# Altium integrated library Maxim Analog Filters.IntLib: 555 symbols (part 15 of 26)
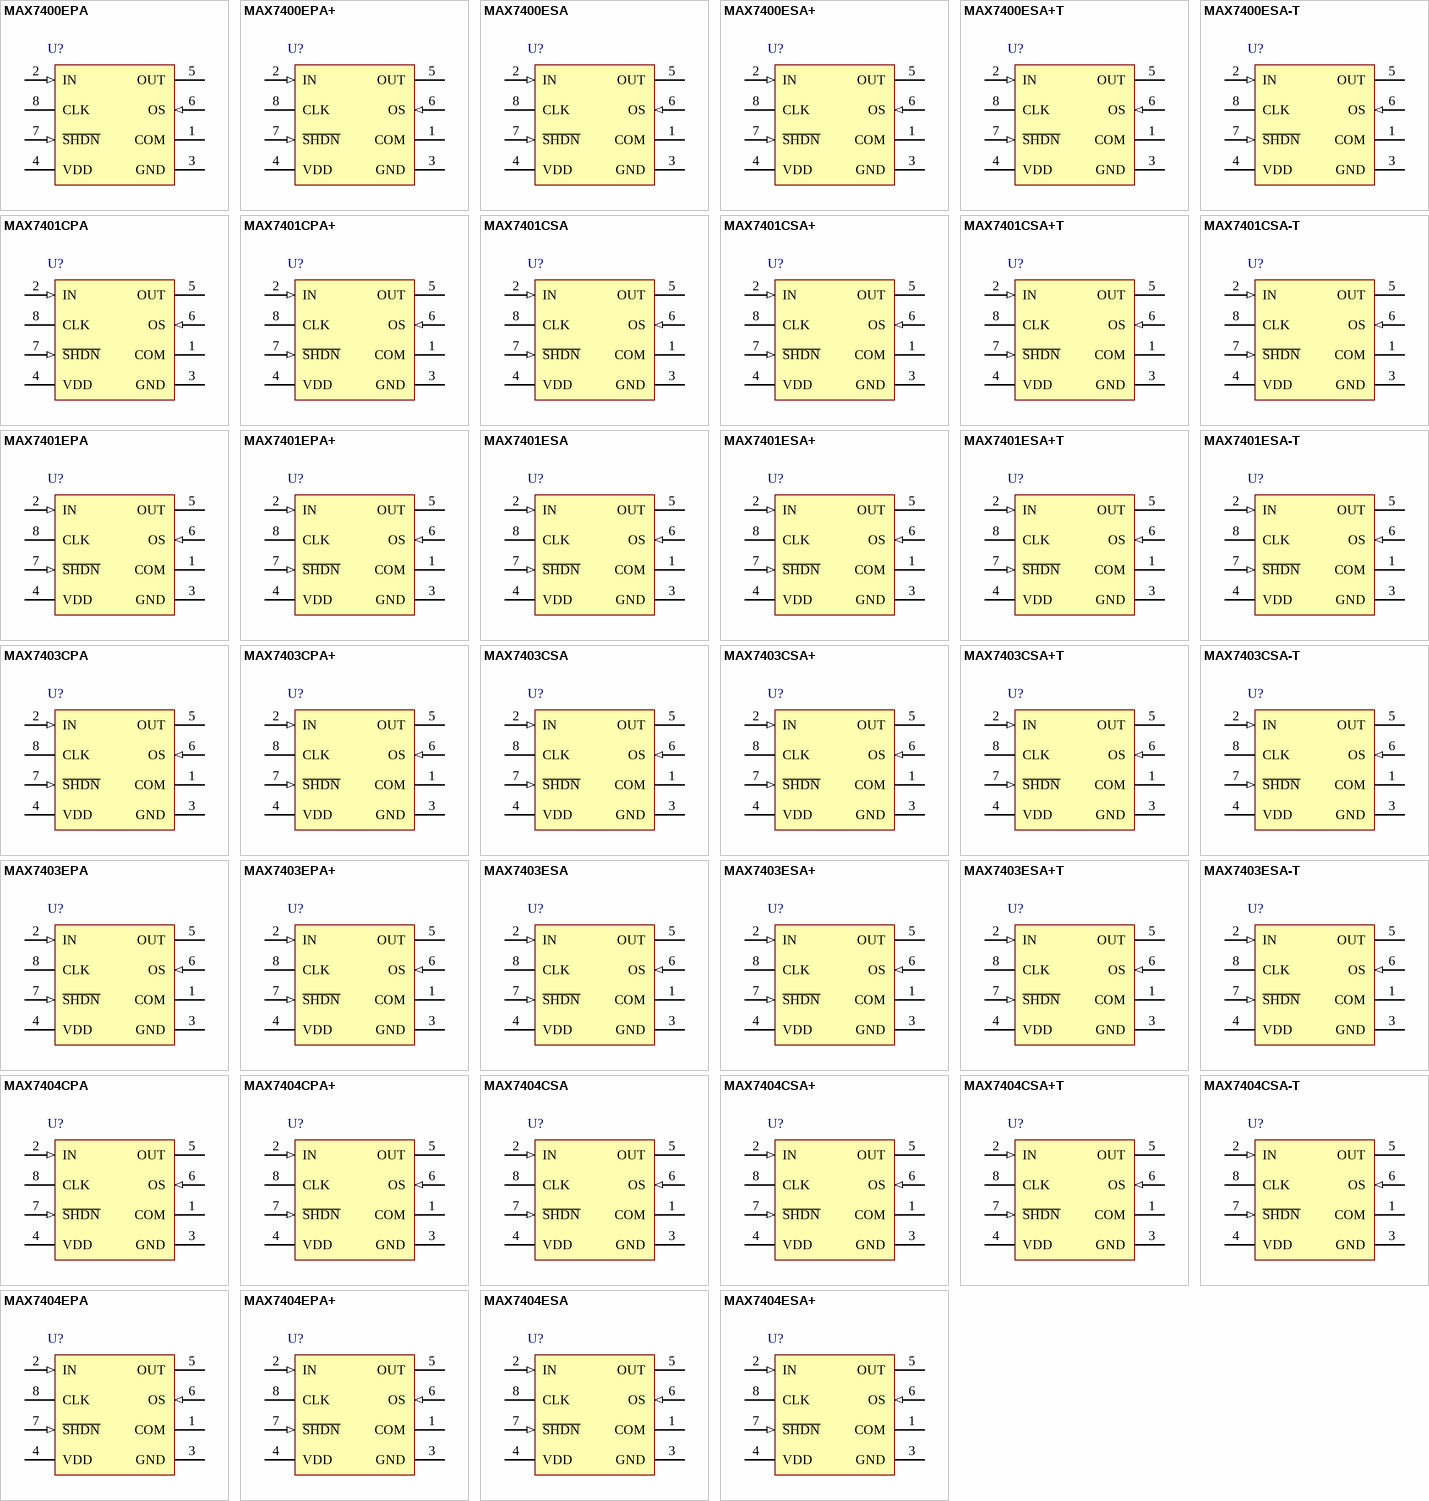
[diagram p31: symbols MAX7400EPA to MAX7404ESA+]

## MAX7400ESA+
designator U?
8th-Order Switched Capacitor Lowpass Filter, Elliptic, 5 V, -40 to 85 degC, 8-Pin SOIC (S8+5), Pb-Free; Generic Part Number: MAX7400; PartNumber: MAX7400ESA+; Filter Sections: 1; Order Per Filter Section: 8; Program Method: Clock; DatasheetVersion: Rev. 2; PackageVersion: Rev. D, 10/2012; PackageReference: S8+5; PackageDescription: 8-Pin Small-Outline IC, Narrow (0.15in) (S8+5), Body 4.90 x 3.90 mm, Pitch 1.27 mm; Supplier 1: Digi-Key; Supplier Part Number 1: MAX7400ESA+-ND; Supplier 2: Farnell; Supplier Part Number 2: 1936387; Supplier 3: Mouser; Supplier Part Number 3: 700-MAX7400ESA; Filter Characteristic: Elliptic; Filter Class: Switched Cap; Filter Type: Lowpass; RoHS: Pb-Free; Mounting Technology: Surface Mount; Code_JEDEC: MS012; ComponentLink1Description: Manufacturer URL; ComponentLink1URL: http://www.maximintegrated.com/; ComponentLink2Description: Datasheet; ComponentLink2URL: http://datasheets.maximintegrated.com/en/ds/MAX7400-MAX7407.pdf; ComponentLink3Description: Package Specification; ComponentLink3URL: http://pdfserv.maximintegrated.com/package_dwgs/21-0041.PDF
footprint MAXM-S8+5_N (SOIC, 8-Leads, Body 4.90x3.90mm, Pitch 1.27mm, IPC Medium Density)
footprint MAXM-S8+5_L (SOIC, 8-Leads, Body 4.90x3.90mm, Pitch 1.27mm, IPC High Density)
footprint MAXM-S8+5_M (SOIC, 8-Leads, Body 4.90x3.90mm, Pitch 1.27mm, IPC Low Density)
pins: 1 COM "Common Input. Biased internally at midsupply. Bypass externally to GND with a 0.1uF capacitor. To override internal biasing, drive with an external supply.", 2 IN (in) "Filter Input", 3 GND (power) "Ground", 4 VDD (power) "Positive Supply Input: +5V for MAX7400/MAX7403, +3V for MAX7404/MAX7407", 5 OUT (hiz) "Filter Output", 6 OS (in) "Offset Adjust Input. To adjust output offset, bias OS externally. Connect OS to COM if no offset adjustment is needed. Refer to Offset and Common-Mode Input Adjustment section.", 7 ~{SHDN} (in) "Shutdown Input. Drive low to enable shutdown mode; drive high or connect to VDD for normal operation.", 8 CLK "Clock Input. To override the internal oscillator, connect to an external clock; otherwise, connect an external capacitor (COSC) from CLK to GND to set the internal oscillator frequency."

## MAX7400ESA+T
designator U?
8th-Order Switched Capacitor Lowpass Filter, Elliptic, 5 V, -40 to 85 degC, 8-Pin SOIC (S8+5), Pb-Free, Tape and Reel; Generic Part Number: MAX7400; PartNumber: MAX7400ESA+T; Filter Sections: 1; Order Per Filter Section: 8; Program Method: Clock; DatasheetVersion: Rev. 2; PackageVersion: Rev. D, 10/2012; PackageReference: S8+5; PackageDescription: 8-Pin Small-Outline IC, Narrow (0.15in) (S8+5), Body 4.90 x 3.90 mm, Pitch 1.27 mm; Supplier 1: Digi-Key; Supplier Part Number 1: MAX7400ESA+T-ND; Supplier 2: Mouser; Supplier Part Number 2: 700-MAX7400ESAT; Filter Characteristic: Elliptic; Filter Class: Switched Cap; Filter Type: Lowpass; Packing: Tape and Reel; RoHS: Pb-Free; Mounting Technology: Surface Mount; Code_JEDEC: MS012; ComponentLink1Description: Manufacturer URL; ComponentLink1URL: http://www.maximintegrated.com/; ComponentLink2Description: Datasheet; ComponentLink2URL: http://datasheets.maximintegrated.com/en/ds/MAX7400-MAX7407.pdf; ComponentLink3Description: Package Specification; ComponentLink3URL: http://pdfserv.maximintegrated.com/package_dwgs/21-0041.PDF
footprint MAXM-S8+5_N (SOIC, 8-Leads, Body 4.90x3.90mm, Pitch 1.27mm, IPC Medium Density)
footprint MAXM-S8+5_L (SOIC, 8-Leads, Body 4.90x3.90mm, Pitch 1.27mm, IPC High Density)
footprint MAXM-S8+5_M (SOIC, 8-Leads, Body 4.90x3.90mm, Pitch 1.27mm, IPC Low Density)
pins: 1 COM "Common Input. Biased internally at midsupply. Bypass externally to GND with a 0.1uF capacitor. To override internal biasing, drive with an external supply.", 2 IN (in) "Filter Input", 3 GND (power) "Ground", 4 VDD (power) "Positive Supply Input: +5V for MAX7400/MAX7403, +3V for MAX7404/MAX7407", 5 OUT (hiz) "Filter Output", 6 OS (in) "Offset Adjust Input. To adjust output offset, bias OS externally. Connect OS to COM if no offset adjustment is needed. Refer to Offset and Common-Mode Input Adjustment section.", 7 ~{SHDN} (in) "Shutdown Input. Drive low to enable shutdown mode; drive high or connect to VDD for normal operation.", 8 CLK "Clock Input. To override the internal oscillator, connect to an external clock; otherwise, connect an external capacitor (COSC) from CLK to GND to set the internal oscillator frequency."

## MAX7400ESA-T
designator U?
8th-Order Switched Capacitor Lowpass Filter, Elliptic, 5 V, -40 to 85 degC, 8-Pin SOIC (S8-5), Tape and Reel; Generic Part Number: MAX7400; PartNumber: MAX7400ESA-T; Filter Sections: 1; Order Per Filter Section: 8; Program Method: Clock; DatasheetVersion: Rev. 2; PackageVersion: Rev. D, 10/2012; PackageReference: S8-5; PackageDescription: 8-Pin Small-Outline IC, Narrow (0.15in) (S8-5), Body 4.90 x 3.90 mm, Pitch 1.27 mm; Supplier 1: Mouser; Supplier Part Number 1: N/A; Filter Characteristic: Elliptic; Filter Class: Switched Cap; Filter Type: Lowpass; Packing: Tape and Reel; Mounting Technology: Surface Mount; Code_JEDEC: MS012; ComponentLink1Description: Manufacturer URL; ComponentLink1URL: http://www.maximintegrated.com/; ComponentLink2Description: Datasheet; ComponentLink2URL: http://datasheets.maximintegrated.com/en/ds/MAX7400-MAX7407.pdf; ComponentLink3Description: Package Specification; ComponentLink3URL: http://pdfserv.maximintegrated.com/package_dwgs/21-0041.PDF
footprint MAXM-S8-5_N (SOIC, 8-Leads, Body 4.9x3.9mm, Pitch 1.27mm, IPC Medium Density)
footprint MAXM-S8-5_L (SOIC, 8-Leads, Body 4.9x3.9mm, Pitch 1.27mm, IPC High Density)
footprint MAXM-S8-5_M (SOIC, 8-Leads, Body 4.9x3.9mm, Pitch 1.27mm, IPC Low Density)
pins: 1 COM "Common Input. Biased internally at midsupply. Bypass externally to GND with a 0.1uF capacitor. To override internal biasing, drive with an external supply.", 2 IN (in) "Filter Input", 3 GND (power) "Ground", 4 VDD (power) "Positive Supply Input: +5V for MAX7400/MAX7403, +3V for MAX7404/MAX7407", 5 OUT (hiz) "Filter Output", 6 OS (in) "Offset Adjust Input. To adjust output offset, bias OS externally. Connect OS to COM if no offset adjustment is needed. Refer to Offset and Common-Mode Input Adjustment section.", 7 ~{SHDN} (in) "Shutdown Input. Drive low to enable shutdown mode; drive high or connect to VDD for normal operation.", 8 CLK "Clock Input. To override the internal oscillator, connect to an external clock; otherwise, connect an external capacitor (COSC) from CLK to GND to set the internal oscillator frequency."

## MAX7401CPA
designator U?
8th-Order Switched Capacitor Lowpass Filter, Bessel, 5 V, 0 to 70 degC, 8-Pin DIP (P8-2); Generic Part Number: MAX7401; PartNumber: MAX7401CPA; Filter Sections: 1; Order Per Filter Section: 8; Program Method: Clock; DatasheetVersion: Rev. 1; PackageVersion: Rev. E, 04/2011; PackageReference: P8-2; PackageDescription: 8-Pin Plastic Dual-In-Line, Narrow (0.3in) (P8-2), Body 9.375 x 6.985 mm, Pitch 2.54 mm; Supplier 1: Mouser; Supplier Part Number 1: N/A; Filter Characteristic: Bessel; Filter Class: Switched Cap; Filter Type: Lowpass; Mounting Technology: Through Hole; Code_JEDEC: MS001-XX; ComponentLink1Description: Manufacturer URL; ComponentLink1URL: http://www.maximintegrated.com/; ComponentLink2Description: Datasheet; ComponentLink2URL: http://datasheets.maximintegrated.com/en/ds/MAX7401-MAX7405.pdf; ComponentLink3Description: Package Specification; ComponentLink3URL: http://pdfserv.maximintegrated.com/package_dwgs/21-0043.PDF
footprint MAXM-P8-2 (DIP, 8-Leads, Body 9.375x6.985mm, Pitch 2.54mm)
pins: 1 COM "Common Input. Biased internally at mid-supply. Bypass externally to GND with a 0.1uF capacitor. To override internal biasing, drive with an external supply.", 2 IN (in) "Filter Input", 3 GND (power) "Ground", 4 VDD (power) "Positive Supply Input: +5V for MAX7401, +3V for MAX7405", 5 OUT (hiz) "Filter Output", 6 OS (in) "Offset Adjust Input. To adjust output offset, bias OS externally. Connect OS to COM if no offset adjustment is needed. Refer to Offset and Common-Mode Input Adjustment section.", 7 ~{SHDN} (in) "Shutdown Input. Drive low to enable shutdown mode; drive high or connect to VDD for normal operation.", 8 CLK "Clock Input. To override the internal oscillator, connect to an external clock; otherwise, connect an external capacitor (COSC) from CLK to GND to set the internal oscillator frequency."

## MAX7401CPA+
designator U?
8th-Order Switched Capacitor Lowpass Filter, Bessel, 5 V, 0 to 70 degC, 8-Pin DIP (P8+2), Pb-Free; Generic Part Number: MAX7401; PartNumber: MAX7401CPA+; Filter Sections: 1; Order Per Filter Section: 8; Program Method: Clock; DatasheetVersion: Rev. 1; PackageVersion: Rev. E, 04/2011; PackageReference: P8+2; PackageDescription: 8-Pin Plastic Dual-In-Line, Narrow (0.3in) (P8+2), Body 9.375 x 6.985 mm, Pitch 2.54 mm; Supplier 1: Digi-Key; Supplier Part Number 1: MAX7401CPA+-ND; Supplier 2: Mouser; Supplier Part Number 2: 700-MAX7401CPA; Filter Characteristic: Bessel; Filter Class: Switched Cap; Filter Type: Lowpass; RoHS: Pb-Free; Mounting Technology: Through Hole; Code_JEDEC: MS001-XX; ComponentLink1Description: Manufacturer URL; ComponentLink1URL: http://www.maximintegrated.com/; ComponentLink2Description: Datasheet; ComponentLink2URL: http://datasheets.maximintegrated.com/en/ds/MAX7401-MAX7405.pdf; ComponentLink3Description: Package Specification; ComponentLink3URL: http://pdfserv.maximintegrated.com/package_dwgs/21-0043.PDF
footprint MAXM-P8+2 (DIP, 8-Leads, Body 9.375x6.985mm, Pitch 2.54mm)
pins: 1 COM "Common Input. Biased internally at mid-supply. Bypass externally to GND with a 0.1uF capacitor. To override internal biasing, drive with an external supply.", 2 IN (in) "Filter Input", 3 GND (power) "Ground", 4 VDD (power) "Positive Supply Input: +5V for MAX7401, +3V for MAX7405", 5 OUT (hiz) "Filter Output", 6 OS (in) "Offset Adjust Input. To adjust output offset, bias OS externally. Connect OS to COM if no offset adjustment is needed. Refer to Offset and Common-Mode Input Adjustment section.", 7 ~{SHDN} (in) "Shutdown Input. Drive low to enable shutdown mode; drive high or connect to VDD for normal operation.", 8 CLK "Clock Input. To override the internal oscillator, connect to an external clock; otherwise, connect an external capacitor (COSC) from CLK to GND to set the internal oscillator frequency."

## MAX7401CSA
designator U?
8th-Order Switched Capacitor Lowpass Filter, Bessel, 5 V, 0 to 70 degC, 8-Pin SOIC (S8-5); Generic Part Number: MAX7401; PartNumber: MAX7401CSA; Filter Sections: 1; Order Per Filter Section: 8; Program Method: Clock; DatasheetVersion: Rev. 1; PackageVersion: Rev. D, 10/2012; PackageReference: S8-5; PackageDescription: 8-Pin Small-Outline IC, Narrow (0.15in) (S8-5), Body 4.90 x 3.90 mm, Pitch 1.27 mm; Supplier 1: Mouser; Supplier Part Number 1: N/A; Filter Characteristic: Bessel; Filter Class: Switched Cap; Filter Type: Lowpass; Mounting Technology: Surface Mount; Code_JEDEC: MS012; ComponentLink1Description: Manufacturer URL; ComponentLink1URL: http://www.maximintegrated.com/; ComponentLink2Description: Datasheet; ComponentLink2URL: http://datasheets.maximintegrated.com/en/ds/MAX7401-MAX7405.pdf; ComponentLink3Description: Package Specification; ComponentLink3URL: http://pdfserv.maximintegrated.com/package_dwgs/21-0041.PDF
footprint MAXM-S8-5_N (SOIC, 8-Leads, Body 4.9x3.9mm, Pitch 1.27mm, IPC Medium Density)
footprint MAXM-S8-5_L (SOIC, 8-Leads, Body 4.9x3.9mm, Pitch 1.27mm, IPC High Density)
footprint MAXM-S8-5_M (SOIC, 8-Leads, Body 4.9x3.9mm, Pitch 1.27mm, IPC Low Density)
pins: 1 COM "Common Input. Biased internally at midsupply. Bypass externally to GND with a 0.1uF capacitor. To override internal biasing, drive with an external supply.", 2 IN (in) "Filter Input", 3 GND (power) "Ground", 4 VDD (power) "Positive Supply Input: +5V for MAX7400/MAX7403, +3V for MAX7404/MAX7407", 5 OUT (hiz) "Filter Output", 6 OS (in) "Offset Adjust Input. To adjust output offset, bias OS externally. Connect OS to COM if no offset adjustment is needed. Refer to Offset and Common-Mode Input Adjustment section.", 7 ~{SHDN} (in) "Shutdown Input. Drive low to enable shutdown mode; drive high or connect to VDD for normal operation.", 8 CLK "Clock Input. To override the internal oscillator, connect to an external clock; otherwise, connect an external capacitor (COSC) from CLK to GND to set the internal oscillator frequency."

## MAX7401CSA+
designator U?
8th-Order Switched Capacitor Lowpass Filter, Bessel, 5 V, 0 to 70 degC, 8-Pin SOIC (S8+5), Pb-Free; Generic Part Number: MAX7401; PartNumber: MAX7401CSA+; Filter Sections: 1; Order Per Filter Section: 8; Program Method: Clock; DatasheetVersion: Rev. 1; PackageVersion: Rev. D, 10/2012; PackageReference: S8+5; PackageDescription: 8-Pin Small-Outline IC, Narrow (0.15in) (S8+5), Body 4.90 x 3.90 mm, Pitch 1.27 mm; Supplier 1: Digi-Key; Supplier Part Number 1: MAX7401CSA+-ND; Supplier 2: Mouser; Supplier Part Number 2: 700-MAX7401CSA; Filter Characteristic: Bessel; Filter Class: Switched Cap; Filter Type: Lowpass; RoHS: Pb-Free; Mounting Technology: Surface Mount; Code_JEDEC: MS012; ComponentLink1Description: Manufacturer URL; ComponentLink1URL: http://www.maximintegrated.com/; ComponentLink2Description: Datasheet; ComponentLink2URL: http://datasheets.maximintegrated.com/en/ds/MAX7401-MAX7405.pdf; ComponentLink3Description: Package Specification; ComponentLink3URL: http://pdfserv.maximintegrated.com/package_dwgs/21-0041.PDF
footprint MAXM-S8+5_N (SOIC, 8-Leads, Body 4.90x3.90mm, Pitch 1.27mm, IPC Medium Density)
footprint MAXM-S8+5_L (SOIC, 8-Leads, Body 4.90x3.90mm, Pitch 1.27mm, IPC High Density)
footprint MAXM-S8+5_M (SOIC, 8-Leads, Body 4.90x3.90mm, Pitch 1.27mm, IPC Low Density)
pins: 1 COM "Common Input. Biased internally at midsupply. Bypass externally to GND with a 0.1uF capacitor. To override internal biasing, drive with an external supply.", 2 IN (in) "Filter Input", 3 GND (power) "Ground", 4 VDD (power) "Positive Supply Input: +5V for MAX7400/MAX7403, +3V for MAX7404/MAX7407", 5 OUT (hiz) "Filter Output", 6 OS (in) "Offset Adjust Input. To adjust output offset, bias OS externally. Connect OS to COM if no offset adjustment is needed. Refer to Offset and Common-Mode Input Adjustment section.", 7 ~{SHDN} (in) "Shutdown Input. Drive low to enable shutdown mode; drive high or connect to VDD for normal operation.", 8 CLK "Clock Input. To override the internal oscillator, connect to an external clock; otherwise, connect an external capacitor (COSC) from CLK to GND to set the internal oscillator frequency."

## MAX7401CSA+T
designator U?
8th-Order Switched Capacitor Lowpass Filter, Bessel, 5 V, 0 to 70 degC, 8-Pin SOIC (S8+5), Pb-Free, Tape and Reel; Generic Part Number: MAX7401; PartNumber: MAX7401CSA+T; Filter Sections: 1; Order Per Filter Section: 8; Program Method: Clock; DatasheetVersion: Rev. 1; PackageVersion: Rev. D, 10/2012; PackageReference: S8+5; PackageDescription: 8-Pin Small-Outline IC, Narrow (0.15in) (S8+5), Body 4.90 x 3.90 mm, Pitch 1.27 mm; Supplier 1: Digi-Key; Supplier Part Number 1: MAX7401CSA+T-ND; Supplier 2: Mouser; Supplier Part Number 2: 700-MAX7401CSAT; Filter Characteristic: Bessel; Filter Class: Switched Cap; Filter Type: Lowpass; Packing: Tape and Reel; RoHS: Pb-Free; Mounting Technology: Surface Mount; Code_JEDEC: MS012; ComponentLink1Description: Manufacturer URL; ComponentLink1URL: http://www.maximintegrated.com/; ComponentLink2Description: Datasheet; ComponentLink2URL: http://datasheets.maximintegrated.com/en/ds/MAX7401-MAX7405.pdf; ComponentLink3Description: Package Specification; ComponentLink3URL: http://pdfserv.maximintegrated.com/package_dwgs/21-0041.PDF
footprint MAXM-S8+5_N (SOIC, 8-Leads, Body 4.90x3.90mm, Pitch 1.27mm, IPC Medium Density)
footprint MAXM-S8+5_L (SOIC, 8-Leads, Body 4.90x3.90mm, Pitch 1.27mm, IPC High Density)
footprint MAXM-S8+5_M (SOIC, 8-Leads, Body 4.90x3.90mm, Pitch 1.27mm, IPC Low Density)
pins: 1 COM "Common Input. Biased internally at midsupply. Bypass externally to GND with a 0.1uF capacitor. To override internal biasing, drive with an external supply.", 2 IN (in) "Filter Input", 3 GND (power) "Ground", 4 VDD (power) "Positive Supply Input: +5V for MAX7400/MAX7403, +3V for MAX7404/MAX7407", 5 OUT (hiz) "Filter Output", 6 OS (in) "Offset Adjust Input. To adjust output offset, bias OS externally. Connect OS to COM if no offset adjustment is needed. Refer to Offset and Common-Mode Input Adjustment section.", 7 ~{SHDN} (in) "Shutdown Input. Drive low to enable shutdown mode; drive high or connect to VDD for normal operation.", 8 CLK "Clock Input. To override the internal oscillator, connect to an external clock; otherwise, connect an external capacitor (COSC) from CLK to GND to set the internal oscillator frequency."

## MAX7401CSA-T
designator U?
8th-Order Switched Capacitor Lowpass Filter, Bessel, 5 V, 0 to 70 degC, 8-Pin SOIC (S8-5), Tape and Reel; Generic Part Number: MAX7401; PartNumber: MAX7401CSA-T; Filter Sections: 1; Order Per Filter Section: 8; Program Method: Clock; DatasheetVersion: Rev. 1; PackageVersion: Rev. D, 10/2012; PackageReference: S8-5; PackageDescription: 8-Pin Small-Outline IC, Narrow (0.15in) (S8-5), Body 4.90 x 3.90 mm, Pitch 1.27 mm; Supplier 1: Mouser; Supplier Part Number 1: N/A; Filter Characteristic: Bessel; Filter Class: Switched Cap; Filter Type: Lowpass; Packing: Tape and Reel; Mounting Technology: Surface Mount; Code_JEDEC: MS012; ComponentLink1Description: Manufacturer URL; ComponentLink1URL: http://www.maximintegrated.com/; ComponentLink2Description: Datasheet; ComponentLink2URL: http://datasheets.maximintegrated.com/en/ds/MAX7401-MAX7405.pdf; ComponentLink3Description: Package Specification; ComponentLink3URL: http://pdfserv.maximintegrated.com/package_dwgs/21-0041.PDF
footprint MAXM-S8-5_N (SOIC, 8-Leads, Body 4.9x3.9mm, Pitch 1.27mm, IPC Medium Density)
footprint MAXM-S8-5_L (SOIC, 8-Leads, Body 4.9x3.9mm, Pitch 1.27mm, IPC High Density)
footprint MAXM-S8-5_M (SOIC, 8-Leads, Body 4.9x3.9mm, Pitch 1.27mm, IPC Low Density)
pins: 1 COM "Common Input. Biased internally at midsupply. Bypass externally to GND with a 0.1uF capacitor. To override internal biasing, drive with an external supply.", 2 IN (in) "Filter Input", 3 GND (power) "Ground", 4 VDD (power) "Positive Supply Input: +5V for MAX7400/MAX7403, +3V for MAX7404/MAX7407", 5 OUT (hiz) "Filter Output", 6 OS (in) "Offset Adjust Input. To adjust output offset, bias OS externally. Connect OS to COM if no offset adjustment is needed. Refer to Offset and Common-Mode Input Adjustment section.", 7 ~{SHDN} (in) "Shutdown Input. Drive low to enable shutdown mode; drive high or connect to VDD for normal operation.", 8 CLK "Clock Input. To override the internal oscillator, connect to an external clock; otherwise, connect an external capacitor (COSC) from CLK to GND to set the internal oscillator frequency."

## MAX7401EPA
designator U?
8th-Order Switched Capacitor Lowpass Filter, Bessel, 5 V, -40 to 85 degC, 8-Pin DIP (P8-2); Generic Part Number: MAX7401; PartNumber: MAX7401EPA; Filter Sections: 1; Order Per Filter Section: 8; Program Method: Clock; DatasheetVersion: Rev. 1; PackageVersion: Rev. E, 04/2011; PackageReference: P8-2; PackageDescription: 8-Pin Plastic Dual-In-Line, Narrow (0.3in) (P8-2), Body 9.375 x 6.985 mm, Pitch 2.54 mm; Supplier 1: Mouser; Supplier Part Number 1: N/A; Filter Characteristic: Bessel; Filter Class: Switched Cap; Filter Type: Lowpass; Mounting Technology: Through Hole; Code_JEDEC: MS001-XX; ComponentLink1Description: Manufacturer URL; ComponentLink1URL: http://www.maximintegrated.com/; ComponentLink2Description: Datasheet; ComponentLink2URL: http://datasheets.maximintegrated.com/en/ds/MAX7401-MAX7405.pdf; ComponentLink3Description: Package Specification; ComponentLink3URL: http://pdfserv.maximintegrated.com/package_dwgs/21-0043.PDF
footprint MAXM-P8-2 (DIP, 8-Leads, Body 9.375x6.985mm, Pitch 2.54mm)
pins: 1 COM "Common Input. Biased internally at mid-supply. Bypass externally to GND with a 0.1uF capacitor. To override internal biasing, drive with an external supply.", 2 IN (in) "Filter Input", 3 GND (power) "Ground", 4 VDD (power) "Positive Supply Input: +5V for MAX7401, +3V for MAX7405", 5 OUT (hiz) "Filter Output", 6 OS (in) "Offset Adjust Input. To adjust output offset, bias OS externally. Connect OS to COM if no offset adjustment is needed. Refer to Offset and Common-Mode Input Adjustment section.", 7 ~{SHDN} (in) "Shutdown Input. Drive low to enable shutdown mode; drive high or connect to VDD for normal operation.", 8 CLK "Clock Input. To override the internal oscillator, connect to an external clock; otherwise, connect an external capacitor (COSC) from CLK to GND to set the internal oscillator frequency."

## MAX7401EPA+
designator U?
8th-Order Switched Capacitor Lowpass Filter, Bessel, 5 V, -40 to 85 degC, 8-Pin DIP (P8+2), Pb-Free; Generic Part Number: MAX7401; PartNumber: MAX7401EPA+; Filter Sections: 1; Order Per Filter Section: 8; Program Method: Clock; DatasheetVersion: Rev. 1; PackageVersion: Rev. E, 04/2011; PackageReference: P8+2; PackageDescription: 8-Pin Plastic Dual-In-Line, Narrow (0.3in) (P8+2), Body 9.375 x 6.985 mm, Pitch 2.54 mm; Supplier 1: Digi-Key; Supplier Part Number 1: MAX7401EPA+-ND; Supplier 2: Mouser; Supplier Part Number 2: 700-MAX7401EPA; Filter Characteristic: Bessel; Filter Class: Switched Cap; Filter Type: Lowpass; RoHS: Pb-Free; Mounting Technology: Through Hole; Code_JEDEC: MS001-XX; ComponentLink1Description: Manufacturer URL; ComponentLink1URL: http://www.maximintegrated.com/; ComponentLink2Description: Datasheet; ComponentLink2URL: http://datasheets.maximintegrated.com/en/ds/MAX7401-MAX7405.pdf; ComponentLink3Description: Package Specification; ComponentLink3URL: http://pdfserv.maximintegrated.com/package_dwgs/21-0043.PDF
footprint MAXM-P8+2 (DIP, 8-Leads, Body 9.375x6.985mm, Pitch 2.54mm)
pins: 1 COM "Common Input. Biased internally at mid-supply. Bypass externally to GND with a 0.1uF capacitor. To override internal biasing, drive with an external supply.", 2 IN (in) "Filter Input", 3 GND (power) "Ground", 4 VDD (power) "Positive Supply Input: +5V for MAX7401, +3V for MAX7405", 5 OUT (hiz) "Filter Output", 6 OS (in) "Offset Adjust Input. To adjust output offset, bias OS externally. Connect OS to COM if no offset adjustment is needed. Refer to Offset and Common-Mode Input Adjustment section.", 7 ~{SHDN} (in) "Shutdown Input. Drive low to enable shutdown mode; drive high or connect to VDD for normal operation.", 8 CLK "Clock Input. To override the internal oscillator, connect to an external clock; otherwise, connect an external capacitor (COSC) from CLK to GND to set the internal oscillator frequency."

## MAX7401ESA
designator U?
8th-Order Switched Capacitor Lowpass Filter, Bessel, 5 V, -40 to 85 degC, 8-Pin SOIC (S8-5); Generic Part Number: MAX7401; PartNumber: MAX7401ESA; Filter Sections: 1; Order Per Filter Section: 8; Program Method: Clock; DatasheetVersion: Rev. 1; PackageVersion: Rev. D, 10/2012; PackageReference: S8-5; PackageDescription: 8-Pin Small-Outline IC, Narrow (0.15in) (S8-5), Body 4.90 x 3.90 mm, Pitch 1.27 mm; Supplier 1: Mouser; Supplier Part Number 1: N/A; Filter Characteristic: Bessel; Filter Class: Switched Cap; Filter Type: Lowpass; Mounting Technology: Surface Mount; Code_JEDEC: MS012; ComponentLink1Description: Manufacturer URL; ComponentLink1URL: http://www.maximintegrated.com/; ComponentLink2Description: Datasheet; ComponentLink2URL: http://datasheets.maximintegrated.com/en/ds/MAX7401-MAX7405.pdf; ComponentLink3Description: Package Specification; ComponentLink3URL: http://pdfserv.maximintegrated.com/package_dwgs/21-0041.PDF
footprint MAXM-S8-5_N (SOIC, 8-Leads, Body 4.9x3.9mm, Pitch 1.27mm, IPC Medium Density)
footprint MAXM-S8-5_L (SOIC, 8-Leads, Body 4.9x3.9mm, Pitch 1.27mm, IPC High Density)
footprint MAXM-S8-5_M (SOIC, 8-Leads, Body 4.9x3.9mm, Pitch 1.27mm, IPC Low Density)
pins: 1 COM "Common Input. Biased internally at midsupply. Bypass externally to GND with a 0.1uF capacitor. To override internal biasing, drive with an external supply.", 2 IN (in) "Filter Input", 3 GND (power) "Ground", 4 VDD (power) "Positive Supply Input: +5V for MAX7400/MAX7403, +3V for MAX7404/MAX7407", 5 OUT (hiz) "Filter Output", 6 OS (in) "Offset Adjust Input. To adjust output offset, bias OS externally. Connect OS to COM if no offset adjustment is needed. Refer to Offset and Common-Mode Input Adjustment section.", 7 ~{SHDN} (in) "Shutdown Input. Drive low to enable shutdown mode; drive high or connect to VDD for normal operation.", 8 CLK "Clock Input. To override the internal oscillator, connect to an external clock; otherwise, connect an external capacitor (COSC) from CLK to GND to set the internal oscillator frequency."

## MAX7401ESA+
designator U?
8th-Order Switched Capacitor Lowpass Filter, Bessel, 5 V, -40 to 85 degC, 8-Pin SOIC (S8+5), Pb-Free; Generic Part Number: MAX7401; PartNumber: MAX7401ESA+; Filter Sections: 1; Order Per Filter Section: 8; Program Method: Clock; DatasheetVersion: Rev. 1; PackageVersion: Rev. D, 10/2012; PackageReference: S8+5; PackageDescription: 8-Pin Small-Outline IC, Narrow (0.15in) (S8+5), Body 4.90 x 3.90 mm, Pitch 1.27 mm; Supplier 1: Digi-Key; Supplier Part Number 1: MAX7401ESA+-ND; Supplier 2: Mouser; Supplier Part Number 2: 700-MAX7401ESA; Filter Characteristic: Bessel; Filter Class: Switched Cap; Filter Type: Lowpass; RoHS: Pb-Free; Mounting Technology: Surface Mount; Code_JEDEC: MS012; ComponentLink1Description: Manufacturer URL; ComponentLink1URL: http://www.maximintegrated.com/; ComponentLink2Description: Datasheet; ComponentLink2URL: http://datasheets.maximintegrated.com/en/ds/MAX7401-MAX7405.pdf; ComponentLink3Description: Package Specification; ComponentLink3URL: http://pdfserv.maximintegrated.com/package_dwgs/21-0041.PDF
footprint MAXM-S8+5_N (SOIC, 8-Leads, Body 4.90x3.90mm, Pitch 1.27mm, IPC Medium Density)
footprint MAXM-S8+5_L (SOIC, 8-Leads, Body 4.90x3.90mm, Pitch 1.27mm, IPC High Density)
footprint MAXM-S8+5_M (SOIC, 8-Leads, Body 4.90x3.90mm, Pitch 1.27mm, IPC Low Density)
pins: 1 COM "Common Input. Biased internally at midsupply. Bypass externally to GND with a 0.1uF capacitor. To override internal biasing, drive with an external supply.", 2 IN (in) "Filter Input", 3 GND (power) "Ground", 4 VDD (power) "Positive Supply Input: +5V for MAX7400/MAX7403, +3V for MAX7404/MAX7407", 5 OUT (hiz) "Filter Output", 6 OS (in) "Offset Adjust Input. To adjust output offset, bias OS externally. Connect OS to COM if no offset adjustment is needed. Refer to Offset and Common-Mode Input Adjustment section.", 7 ~{SHDN} (in) "Shutdown Input. Drive low to enable shutdown mode; drive high or connect to VDD for normal operation.", 8 CLK "Clock Input. To override the internal oscillator, connect to an external clock; otherwise, connect an external capacitor (COSC) from CLK to GND to set the internal oscillator frequency."

## MAX7401ESA+T
designator U?
8th-Order Switched Capacitor Lowpass Filter, Bessel, 5 V, -40 to 85 degC, 8-Pin SOIC (S8+5), Pb-Free, Tape and Reel; Generic Part Number: MAX7401; PartNumber: MAX7401ESA+T; Filter Sections: 1; Order Per Filter Section: 8; Program Method: Clock; DatasheetVersion: Rev. 1; PackageVersion: Rev. D, 10/2012; PackageReference: S8+5; PackageDescription: 8-Pin Small-Outline IC, Narrow (0.15in) (S8+5), Body 4.90 x 3.90 mm, Pitch 1.27 mm; Supplier 1: Digi-Key; Supplier Part Number 1: MAX7401ESA+T-ND; Supplier 2: Mouser; Supplier Part Number 2: 700-MAX7401ESAT; Filter Characteristic: Bessel; Filter Class: Switched Cap; Filter Type: Lowpass; Packing: Tape and Reel; RoHS: Pb-Free; Mounting Technology: Surface Mount; Code_JEDEC: MS012; ComponentLink1Description: Manufacturer URL; ComponentLink1URL: http://www.maximintegrated.com/; ComponentLink2Description: Datasheet; ComponentLink2URL: http://datasheets.maximintegrated.com/en/ds/MAX7401-MAX7405.pdf; ComponentLink3Description: Package Specification; ComponentLink3URL: http://pdfserv.maximintegrated.com/package_dwgs/21-0041.PDF
footprint MAXM-S8+5_N (SOIC, 8-Leads, Body 4.90x3.90mm, Pitch 1.27mm, IPC Medium Density)
footprint MAXM-S8+5_L (SOIC, 8-Leads, Body 4.90x3.90mm, Pitch 1.27mm, IPC High Density)
footprint MAXM-S8+5_M (SOIC, 8-Leads, Body 4.90x3.90mm, Pitch 1.27mm, IPC Low Density)
pins: 1 COM "Common Input. Biased internally at midsupply. Bypass externally to GND with a 0.1uF capacitor. To override internal biasing, drive with an external supply.", 2 IN (in) "Filter Input", 3 GND (power) "Ground", 4 VDD (power) "Positive Supply Input: +5V for MAX7400/MAX7403, +3V for MAX7404/MAX7407", 5 OUT (hiz) "Filter Output", 6 OS (in) "Offset Adjust Input. To adjust output offset, bias OS externally. Connect OS to COM if no offset adjustment is needed. Refer to Offset and Common-Mode Input Adjustment section.", 7 ~{SHDN} (in) "Shutdown Input. Drive low to enable shutdown mode; drive high or connect to VDD for normal operation.", 8 CLK "Clock Input. To override the internal oscillator, connect to an external clock; otherwise, connect an external capacitor (COSC) from CLK to GND to set the internal oscillator frequency."

## MAX7401ESA-T
designator U?
8th-Order Switched Capacitor Lowpass Filter, Bessel, 5 V, -40 to 85 degC, 8-Pin SOIC (S8-5), Tape and Reel; Generic Part Number: MAX7401; PartNumber: MAX7401ESA-T; Filter Sections: 1; Order Per Filter Section: 8; Program Method: Clock; DatasheetVersion: Rev. 1; PackageVersion: Rev. D, 10/2012; PackageReference: S8-5; PackageDescription: 8-Pin Small-Outline IC, Narrow (0.15in) (S8-5), Body 4.90 x 3.90 mm, Pitch 1.27 mm; Supplier 1: Mouser; Supplier Part Number 1: N/A; Filter Characteristic: Bessel; Filter Class: Switched Cap; Filter Type: Lowpass; Packing: Tape and Reel; Mounting Technology: Surface Mount; Code_JEDEC: MS012; ComponentLink1Description: Manufacturer URL; ComponentLink1URL: http://www.maximintegrated.com/; ComponentLink2Description: Datasheet; ComponentLink2URL: http://datasheets.maximintegrated.com/en/ds/MAX7401-MAX7405.pdf; ComponentLink3Description: Package Specification; ComponentLink3URL: http://pdfserv.maximintegrated.com/package_dwgs/21-0041.PDF
footprint MAXM-S8-5_N (SOIC, 8-Leads, Body 4.9x3.9mm, Pitch 1.27mm, IPC Medium Density)
footprint MAXM-S8-5_L (SOIC, 8-Leads, Body 4.9x3.9mm, Pitch 1.27mm, IPC High Density)
footprint MAXM-S8-5_M (SOIC, 8-Leads, Body 4.9x3.9mm, Pitch 1.27mm, IPC Low Density)
pins: 1 COM "Common Input. Biased internally at midsupply. Bypass externally to GND with a 0.1uF capacitor. To override internal biasing, drive with an external supply.", 2 IN (in) "Filter Input", 3 GND (power) "Ground", 4 VDD (power) "Positive Supply Input: +5V for MAX7400/MAX7403, +3V for MAX7404/MAX7407", 5 OUT (hiz) "Filter Output", 6 OS (in) "Offset Adjust Input. To adjust output offset, bias OS externally. Connect OS to COM if no offset adjustment is needed. Refer to Offset and Common-Mode Input Adjustment section.", 7 ~{SHDN} (in) "Shutdown Input. Drive low to enable shutdown mode; drive high or connect to VDD for normal operation.", 8 CLK "Clock Input. To override the internal oscillator, connect to an external clock; otherwise, connect an external capacitor (COSC) from CLK to GND to set the internal oscillator frequency."

## MAX7403CPA
designator U?
8th-Order Switched Capacitor Lowpass Filter, Elliptic, 5 V, 0 to 70 degC, 8-Pin DIP (P8-2); Generic Part Number: MAX7403; PartNumber: MAX7403CPA; Filter Sections: 1; Order Per Filter Section: 8; Program Method: Clock; DatasheetVersion: Rev. 2; PackageVersion: Rev. E, 04/2011; PackageReference: P8-2; PackageDescription: 8-Pin Plastic Dual-In-Line, Narrow (0.3in) (P8-2), Body 9.375 x 6.985 mm, Pitch 2.54 mm; Supplier 1: Mouser; Supplier Part Number 1: N/A; Filter Characteristic: Elliptic; Filter Class: Switched Cap; Filter Type: Lowpass; Mounting Technology: Through Hole; Code_JEDEC: MS001-XX; ComponentLink1Description: Manufacturer URL; ComponentLink1URL: http://www.maximintegrated.com/; ComponentLink2Description: Datasheet; ComponentLink2URL: http://datasheets.maximintegrated.com/en/ds/MAX7400-MAX7407.pdf; ComponentLink3Description: Package Specification; ComponentLink3URL: http://pdfserv.maximintegrated.com/package_dwgs/21-0043.PDF
footprint MAXM-P8-2 (DIP, 8-Leads, Body 9.375x6.985mm, Pitch 2.54mm)
pins: 1 COM "Common Input. Biased internally at midsupply. Bypass externally to GND with a 0.1uF capacitor. To override internal biasing, drive with an external supply.", 2 IN (in) "Filter Input", 3 GND (power) "Ground", 4 VDD (power) "Positive Supply Input: +5V for MAX7400/MAX7403, +3V for MAX7404/MAX7407", 5 OUT (hiz) "Filter Output", 6 OS (in) "Offset Adjust Input. To adjust output offset, bias OS externally. Connect OS to COM if no offset adjustment is needed. Refer to Offset and Common-Mode Input Adjustment section.", 7 ~{SHDN} (in) "Shutdown Input. Drive low to enable shutdown mode; drive high or connect to VDD for normal operation.", 8 CLK "Clock Input. To override the internal oscillator, connect to an external clock; otherwise, connect an external capacitor (COSC) from CLK to GND to set the internal oscillator frequency."

## MAX7403CPA+
designator U?
8th-Order Switched Capacitor Lowpass Filter, Elliptic, 5 V, 0 to 70 degC, 8-Pin DIP (P8+2), Pb-Free; Generic Part Number: MAX7403; PartNumber: MAX7403CPA+; Filter Sections: 1; Order Per Filter Section: 8; Program Method: Clock; DatasheetVersion: Rev. 2; PackageVersion: Rev. E, 04/2011; PackageReference: P8+2; PackageDescription: 8-Pin Plastic Dual-In-Line, Narrow (0.3in) (P8+2), Body 9.375 x 6.985 mm, Pitch 2.54 mm; Supplier 1: Digi-Key; Supplier Part Number 1: MAX7403CPA+-ND; Supplier 2: Mouser; Supplier Part Number 2: 700-MAX7403CPA; Filter Characteristic: Elliptic; Filter Class: Switched Cap; Filter Type: Lowpass; RoHS: Pb-Free; Mounting Technology: Through Hole; Code_JEDEC: MS001-XX; ComponentLink1Description: Manufacturer URL; ComponentLink1URL: http://www.maximintegrated.com/; ComponentLink2Description: Datasheet; ComponentLink2URL: http://datasheets.maximintegrated.com/en/ds/MAX7400-MAX7407.pdf; ComponentLink3Description: Package Specification; ComponentLink3URL: http://pdfserv.maximintegrated.com/package_dwgs/21-0043.PDF
footprint MAXM-P8+2 (DIP, 8-Leads, Body 9.375x6.985mm, Pitch 2.54mm)
pins: 1 COM "Common Input. Biased internally at midsupply. Bypass externally to GND with a 0.1uF capacitor. To override internal biasing, drive with an external supply.", 2 IN (in) "Filter Input", 3 GND (power) "Ground", 4 VDD (power) "Positive Supply Input: +5V for MAX7400/MAX7403, +3V for MAX7404/MAX7407", 5 OUT (hiz) "Filter Output", 6 OS (in) "Offset Adjust Input. To adjust output offset, bias OS externally. Connect OS to COM if no offset adjustment is needed. Refer to Offset and Common-Mode Input Adjustment section.", 7 ~{SHDN} (in) "Shutdown Input. Drive low to enable shutdown mode; drive high or connect to VDD for normal operation.", 8 CLK "Clock Input. To override the internal oscillator, connect to an external clock; otherwise, connect an external capacitor (COSC) from CLK to GND to set the internal oscillator frequency."

## MAX7403CSA
designator U?
8th-Order Switched Capacitor Lowpass Filter, Elliptic, 5 V , 0 to 70 degC, 8-Pin SOIC (S8-5); Generic Part Number: MAX7403; PartNumber: MAX7403CSA; Filter Sections: 1; Order Per Filter Section: 8; Program Method: Clock; DatasheetVersion: Rev. 2; PackageVersion: Rev. D, 10/2012; PackageReference: S8-5; PackageDescription: 8-Pin Small-Outline IC, Narrow (0.15in) (S8-5), Body 4.90 x 3.90 mm, Pitch 1.27 mm; Supplier 1: Mouser; Supplier Part Number 1: N/A; Filter Characteristic: Elliptic; Filter Class: Switched Cap; Filter Type: Lowpass; Mounting Technology: Surface Mount; Code_JEDEC: MS012; ComponentLink1Description: Manufacturer URL; ComponentLink1URL: http://www.maximintegrated.com/; ComponentLink2Description: Datasheet; ComponentLink2URL: http://datasheets.maximintegrated.com/en/ds/MAX7400-MAX7407.pdf; ComponentLink3Description: Package Specification; ComponentLink3URL: http://pdfserv.maximintegrated.com/package_dwgs/21-0041.PDF
footprint MAXM-S8-5_N (SOIC, 8-Leads, Body 4.9x3.9mm, Pitch 1.27mm, IPC Medium Density)
footprint MAXM-S8-5_L (SOIC, 8-Leads, Body 4.9x3.9mm, Pitch 1.27mm, IPC High Density)
footprint MAXM-S8-5_M (SOIC, 8-Leads, Body 4.9x3.9mm, Pitch 1.27mm, IPC Low Density)
pins: 1 COM "Common Input. Biased internally at midsupply. Bypass externally to GND with a 0.1uF capacitor. To override internal biasing, drive with an external supply.", 2 IN (in) "Filter Input", 3 GND (power) "Ground", 4 VDD (power) "Positive Supply Input: +5V for MAX7400/MAX7403, +3V for MAX7404/MAX7407", 5 OUT (hiz) "Filter Output", 6 OS (in) "Offset Adjust Input. To adjust output offset, bias OS externally. Connect OS to COM if no offset adjustment is needed. Refer to Offset and Common-Mode Input Adjustment section.", 7 ~{SHDN} (in) "Shutdown Input. Drive low to enable shutdown mode; drive high or connect to VDD for normal operation.", 8 CLK "Clock Input. To override the internal oscillator, connect to an external clock; otherwise, connect an external capacitor (COSC) from CLK to GND to set the internal oscillator frequency."

## MAX7403CSA+
designator U?
8th-Order Switched Capacitor Lowpass Filter, Elliptic, 5 V , 0 to 70 degC, 8-Pin SOIC (S8+5), Pb-Free; Generic Part Number: MAX7403; PartNumber: MAX7403CSA+; Filter Sections: 1; Order Per Filter Section: 8; Program Method: Clock; DatasheetVersion: Rev. 2; PackageVersion: Rev. D, 10/2012; PackageReference: S8+5; PackageDescription: 8-Pin Small-Outline IC, Narrow (0.15in) (S8+5), Body 4.90 x 3.90 mm, Pitch 1.27 mm; Supplier 1: Digi-Key; Supplier Part Number 1: MAX7403CSA+-ND; Supplier 2: Mouser; Supplier Part Number 2: 700-MAX7403CSA; Filter Characteristic: Elliptic; Filter Class: Switched Cap; Filter Type: Lowpass; RoHS: Pb-Free; Mounting Technology: Surface Mount; Code_JEDEC: MS012; ComponentLink1Description: Manufacturer URL; ComponentLink1URL: http://www.maximintegrated.com/; ComponentLink2Description: Datasheet; ComponentLink2URL: http://datasheets.maximintegrated.com/en/ds/MAX7400-MAX7407.pdf; ComponentLink3Description: Package Specification; ComponentLink3URL: http://pdfserv.maximintegrated.com/package_dwgs/21-0041.PDF
footprint MAXM-S8+5_N (SOIC, 8-Leads, Body 4.90x3.90mm, Pitch 1.27mm, IPC Medium Density)
footprint MAXM-S8+5_L (SOIC, 8-Leads, Body 4.90x3.90mm, Pitch 1.27mm, IPC High Density)
footprint MAXM-S8+5_M (SOIC, 8-Leads, Body 4.90x3.90mm, Pitch 1.27mm, IPC Low Density)
pins: 1 COM "Common Input. Biased internally at midsupply. Bypass externally to GND with a 0.1uF capacitor. To override internal biasing, drive with an external supply.", 2 IN (in) "Filter Input", 3 GND (power) "Ground", 4 VDD (power) "Positive Supply Input: +5V for MAX7400/MAX7403, +3V for MAX7404/MAX7407", 5 OUT (hiz) "Filter Output", 6 OS (in) "Offset Adjust Input. To adjust output offset, bias OS externally. Connect OS to COM if no offset adjustment is needed. Refer to Offset and Common-Mode Input Adjustment section.", 7 ~{SHDN} (in) "Shutdown Input. Drive low to enable shutdown mode; drive high or connect to VDD for normal operation.", 8 CLK "Clock Input. To override the internal oscillator, connect to an external clock; otherwise, connect an external capacitor (COSC) from CLK to GND to set the internal oscillator frequency."

## MAX7403CSA+T
designator U?
8th-Order Switched Capacitor Lowpass Filter, Elliptic, 5 V , 0 to 70 degC, 8-Pin SOIC (S8+5), Pb-Free, Tape and Reel; Generic Part Number: MAX7403; PartNumber: MAX7403CSA+T; Filter Sections: 1; Order Per Filter Section: 8; Program Method: Clock; DatasheetVersion: Rev. 2; PackageVersion: Rev. D, 10/2012; PackageReference: S8+5; PackageDescription: 8-Pin Small-Outline IC, Narrow (0.15in) (S8+5), Body 4.90 x 3.90 mm, Pitch 1.27 mm; Supplier 1: Digi-Key; Supplier Part Number 1: MAX7403CSA+T-ND; Supplier 2: Mouser; Supplier Part Number 2: 700-MAX7403CSAT; Filter Characteristic: Elliptic; Filter Class: Switched Cap; Filter Type: Lowpass; Packing: Tape and Reel; RoHS: Pb-Free; Mounting Technology: Surface Mount; Code_JEDEC: MS012; ComponentLink1Description: Manufacturer URL; ComponentLink1URL: http://www.maximintegrated.com/; ComponentLink2Description: Datasheet; ComponentLink2URL: http://datasheets.maximintegrated.com/en/ds/MAX7400-MAX7407.pdf; ComponentLink3Description: Package Specification; ComponentLink3URL: http://pdfserv.maximintegrated.com/package_dwgs/21-0041.PDF
footprint MAXM-S8+5_N (SOIC, 8-Leads, Body 4.90x3.90mm, Pitch 1.27mm, IPC Medium Density)
footprint MAXM-S8+5_L (SOIC, 8-Leads, Body 4.90x3.90mm, Pitch 1.27mm, IPC High Density)
footprint MAXM-S8+5_M (SOIC, 8-Leads, Body 4.90x3.90mm, Pitch 1.27mm, IPC Low Density)
pins: 1 COM "Common Input. Biased internally at midsupply. Bypass externally to GND with a 0.1uF capacitor. To override internal biasing, drive with an external supply.", 2 IN (in) "Filter Input", 3 GND (power) "Ground", 4 VDD (power) "Positive Supply Input: +5V for MAX7400/MAX7403, +3V for MAX7404/MAX7407", 5 OUT (hiz) "Filter Output", 6 OS (in) "Offset Adjust Input. To adjust output offset, bias OS externally. Connect OS to COM if no offset adjustment is needed. Refer to Offset and Common-Mode Input Adjustment section.", 7 ~{SHDN} (in) "Shutdown Input. Drive low to enable shutdown mode; drive high or connect to VDD for normal operation.", 8 CLK "Clock Input. To override the internal oscillator, connect to an external clock; otherwise, connect an external capacitor (COSC) from CLK to GND to set the internal oscillator frequency."

## MAX7403CSA-T
designator U?
8th-Order Switched Capacitor Lowpass Filter, Elliptic, 5 V , 0 to 70 degC, 8-Pin SOIC (S8-5), Tape and Reel; Generic Part Number: MAX7403; PartNumber: MAX7403CSA-T; Filter Sections: 1; Order Per Filter Section: 8; Program Method: Clock; DatasheetVersion: Rev. 2; PackageVersion: Rev. D, 10/2012; PackageReference: S8-5; PackageDescription: 8-Pin Small-Outline IC, Narrow (0.15in) (S8-5), Body 4.90 x 3.90 mm, Pitch 1.27 mm; Supplier 1: Mouser; Supplier Part Number 1: N/A; Filter Characteristic: Elliptic; Filter Class: Switched Cap; Filter Type: Lowpass; Packing: Tape and Reel; Mounting Technology: Surface Mount; Code_JEDEC: MS012; ComponentLink1Description: Manufacturer URL; ComponentLink1URL: http://www.maximintegrated.com/; ComponentLink2Description: Datasheet; ComponentLink2URL: http://datasheets.maximintegrated.com/en/ds/MAX7400-MAX7407.pdf; ComponentLink3Description: Package Specification; ComponentLink3URL: http://pdfserv.maximintegrated.com/package_dwgs/21-0041.PDF
footprint MAXM-S8-5_N (SOIC, 8-Leads, Body 4.9x3.9mm, Pitch 1.27mm, IPC Medium Density)
footprint MAXM-S8-5_L (SOIC, 8-Leads, Body 4.9x3.9mm, Pitch 1.27mm, IPC High Density)
footprint MAXM-S8-5_M (SOIC, 8-Leads, Body 4.9x3.9mm, Pitch 1.27mm, IPC Low Density)
pins: 1 COM "Common Input. Biased internally at midsupply. Bypass externally to GND with a 0.1uF capacitor. To override internal biasing, drive with an external supply.", 2 IN (in) "Filter Input", 3 GND (power) "Ground", 4 VDD (power) "Positive Supply Input: +5V for MAX7400/MAX7403, +3V for MAX7404/MAX7407", 5 OUT (hiz) "Filter Output", 6 OS (in) "Offset Adjust Input. To adjust output offset, bias OS externally. Connect OS to COM if no offset adjustment is needed. Refer to Offset and Common-Mode Input Adjustment section.", 7 ~{SHDN} (in) "Shutdown Input. Drive low to enable shutdown mode; drive high or connect to VDD for normal operation.", 8 CLK "Clock Input. To override the internal oscillator, connect to an external clock; otherwise, connect an external capacitor (COSC) from CLK to GND to set the internal oscillator frequency."

## MAX7403EPA
designator U?
8th-Order Switched Capacitor Lowpass Filter, Elliptic, 5 V , -40 to 85 degC, 8-Pin DIP (P8-2); Generic Part Number: MAX7403; PartNumber: MAX7403EPA; Filter Sections: 1; Order Per Filter Section: 8; Program Method: Clock; DatasheetVersion: Rev. 2; PackageVersion: Rev. E, 04/2011; PackageReference: P8-2; PackageDescription: 8-Pin Plastic Dual-In-Line, Narrow (0.3in) (P8-2), Body 9.375 x 6.985 mm, Pitch 2.54 mm; Supplier 1: Mouser; Supplier Part Number 1: N/A; Filter Characteristic: Elliptic; Filter Class: Switched Cap; Filter Type: Lowpass; Mounting Technology: Through Hole; Code_JEDEC: MS001-XX; ComponentLink1Description: Manufacturer URL; ComponentLink1URL: http://www.maximintegrated.com/; ComponentLink2Description: Datasheet; ComponentLink2URL: http://datasheets.maximintegrated.com/en/ds/MAX7400-MAX7407.pdf; ComponentLink3Description: Package Specification; ComponentLink3URL: http://pdfserv.maximintegrated.com/package_dwgs/21-0043.PDF
footprint MAXM-P8-2 (DIP, 8-Leads, Body 9.375x6.985mm, Pitch 2.54mm)
pins: 1 COM "Common Input. Biased internally at midsupply. Bypass externally to GND with a 0.1uF capacitor. To override internal biasing, drive with an external supply.", 2 IN (in) "Filter Input", 3 GND (power) "Ground", 4 VDD (power) "Positive Supply Input: +5V for MAX7400/MAX7403, +3V for MAX7404/MAX7407", 5 OUT (hiz) "Filter Output", 6 OS (in) "Offset Adjust Input. To adjust output offset, bias OS externally. Connect OS to COM if no offset adjustment is needed. Refer to Offset and Common-Mode Input Adjustment section.", 7 ~{SHDN} (in) "Shutdown Input. Drive low to enable shutdown mode; drive high or connect to VDD for normal operation.", 8 CLK "Clock Input. To override the internal oscillator, connect to an external clock; otherwise, connect an external capacitor (COSC) from CLK to GND to set the internal oscillator frequency."

## MAX7403EPA+
designator U?
8th-Order Switched Capacitor Lowpass Filter, Elliptic, 5 V , -40 to 85 degC, 8-Pin DIP (P8+2), Pb-Free; Generic Part Number: MAX7403; PartNumber: MAX7403EPA+; Filter Sections: 1; Order Per Filter Section: 8; Program Method: Clock; DatasheetVersion: Rev. 2; PackageVersion: Rev. E, 04/2011; PackageReference: P8+2; PackageDescription: 8-Pin Plastic Dual-In-Line, Narrow (0.3in) (P8+2), Body 9.375 x 6.985 mm, Pitch 2.54 mm; Supplier 1: Digi-Key; Supplier Part Number 1: MAX7403EPA+-ND; Supplier 2: Mouser; Supplier Part Number 2: 700-MAX7403EPA; Filter Characteristic: Elliptic; Filter Class: Switched Cap; Filter Type: Lowpass; RoHS: Pb-Free; Mounting Technology: Through Hole; Code_JEDEC: MS001-XX; ComponentLink1Description: Manufacturer URL; ComponentLink1URL: http://www.maximintegrated.com/; ComponentLink2Description: Datasheet; ComponentLink2URL: http://datasheets.maximintegrated.com/en/ds/MAX7400-MAX7407.pdf; ComponentLink3Description: Package Specification; ComponentLink3URL: http://pdfserv.maximintegrated.com/package_dwgs/21-0043.PDF
footprint MAXM-P8+2 (DIP, 8-Leads, Body 9.375x6.985mm, Pitch 2.54mm)
pins: 1 COM "Common Input. Biased internally at midsupply. Bypass externally to GND with a 0.1uF capacitor. To override internal biasing, drive with an external supply.", 2 IN (in) "Filter Input", 3 GND (power) "Ground", 4 VDD (power) "Positive Supply Input: +5V for MAX7400/MAX7403, +3V for MAX7404/MAX7407", 5 OUT (hiz) "Filter Output", 6 OS (in) "Offset Adjust Input. To adjust output offset, bias OS externally. Connect OS to COM if no offset adjustment is needed. Refer to Offset and Common-Mode Input Adjustment section.", 7 ~{SHDN} (in) "Shutdown Input. Drive low to enable shutdown mode; drive high or connect to VDD for normal operation.", 8 CLK "Clock Input. To override the internal oscillator, connect to an external clock; otherwise, connect an external capacitor (COSC) from CLK to GND to set the internal oscillator frequency."

## MAX7403ESA
designator U?
8th-Order Switched Capacitor Lowpass Filter, Elliptic, 5 V , -40 to 85 degC, 8-Pin SOIC (S8-5); Generic Part Number: MAX7403; PartNumber: MAX7403ESA; Filter Sections: 1; Order Per Filter Section: 8; Program Method: Clock; DatasheetVersion: Rev. 2; PackageVersion: Rev. D, 10/2012; PackageReference: S8-5; PackageDescription: 8-Pin Small-Outline IC, Narrow (0.15in) (S8-5), Body 4.90 x 3.90 mm, Pitch 1.27 mm; Supplier 1: Mouser; Supplier Part Number 1: N/A; Filter Characteristic: Elliptic; Filter Class: Switched Cap; Filter Type: Lowpass; Mounting Technology: Surface Mount; Code_JEDEC: MS012; ComponentLink1Description: Manufacturer URL; ComponentLink1URL: http://www.maximintegrated.com/; ComponentLink2Description: Datasheet; ComponentLink2URL: http://datasheets.maximintegrated.com/en/ds/MAX7400-MAX7407.pdf; ComponentLink3Description: Package Specification; ComponentLink3URL: http://pdfserv.maximintegrated.com/package_dwgs/21-0041.PDF
footprint MAXM-S8-5_N (SOIC, 8-Leads, Body 4.9x3.9mm, Pitch 1.27mm, IPC Medium Density)
footprint MAXM-S8-5_L (SOIC, 8-Leads, Body 4.9x3.9mm, Pitch 1.27mm, IPC High Density)
footprint MAXM-S8-5_M (SOIC, 8-Leads, Body 4.9x3.9mm, Pitch 1.27mm, IPC Low Density)
pins: 1 COM "Common Input. Biased internally at midsupply. Bypass externally to GND with a 0.1uF capacitor. To override internal biasing, drive with an external supply.", 2 IN (in) "Filter Input", 3 GND (power) "Ground", 4 VDD (power) "Positive Supply Input: +5V for MAX7400/MAX7403, +3V for MAX7404/MAX7407", 5 OUT (hiz) "Filter Output", 6 OS (in) "Offset Adjust Input. To adjust output offset, bias OS externally. Connect OS to COM if no offset adjustment is needed. Refer to Offset and Common-Mode Input Adjustment section.", 7 ~{SHDN} (in) "Shutdown Input. Drive low to enable shutdown mode; drive high or connect to VDD for normal operation.", 8 CLK "Clock Input. To override the internal oscillator, connect to an external clock; otherwise, connect an external capacitor (COSC) from CLK to GND to set the internal oscillator frequency."